# EAGLE library part NANOIAQ (library Arduino Nano)
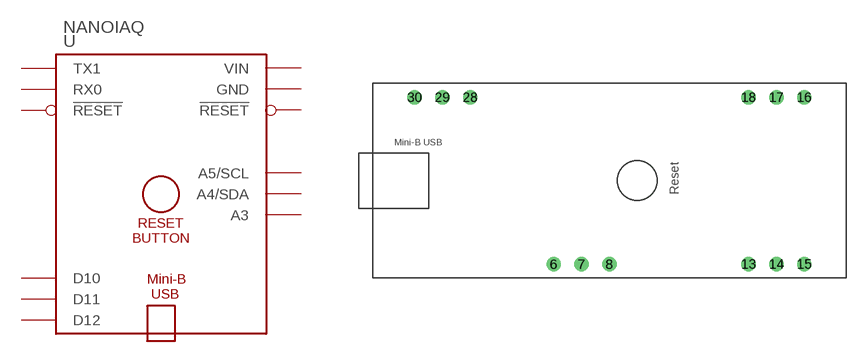
[diagram p0: symbol with the pads of ARDUINO_NANOIAQ; footprint ARDUINO_NANOIAQ]

Designator prefix -

## NANOIAQ  [ARDUINO_NANOIAQ]
6  A3
7  A4/SDA
8  A5/SCL
13  !RESET
14  GND  sup
15  VIN  sup
16  TX1
17  RX0
18  !RESET
28  D10
29  D11
30  D12

## Footprint ARDUINO_NANOIAQ (pad centres in mm)
Arduino Nano V3.0 The Nano was designed and is being produced by Gravitech. Gravitech Arduino Nano V3.0 <http://www.gravitech.us/arna30wiatp.html>
drill 0.8: 6 -7.62,-7.62; 7 -5.08,-7.62; 8 -2.54,-7.62; 13 10.16,-7.62; 14 12.7,-7.62; 15 15.24,-7.62; 16 15.24,7.62; 17 12.7,7.62; 18 10.16,7.62; 28 -15.24,7.62; 29 -17.78,7.62; 30 -20.32,7.62